# Altium footprint library XRCHA.PcbLib: 1 footprints
Each footprint in its own frame and in the unit in brackets; x right, y up, seen from the top. Pads: shape width x height; smd on the part's side, far side on the other; paste and mask are expansions set on the pad; w line width, h text height; cw(c..) or ccw(c..) is an arc to the next point about the centre after c.
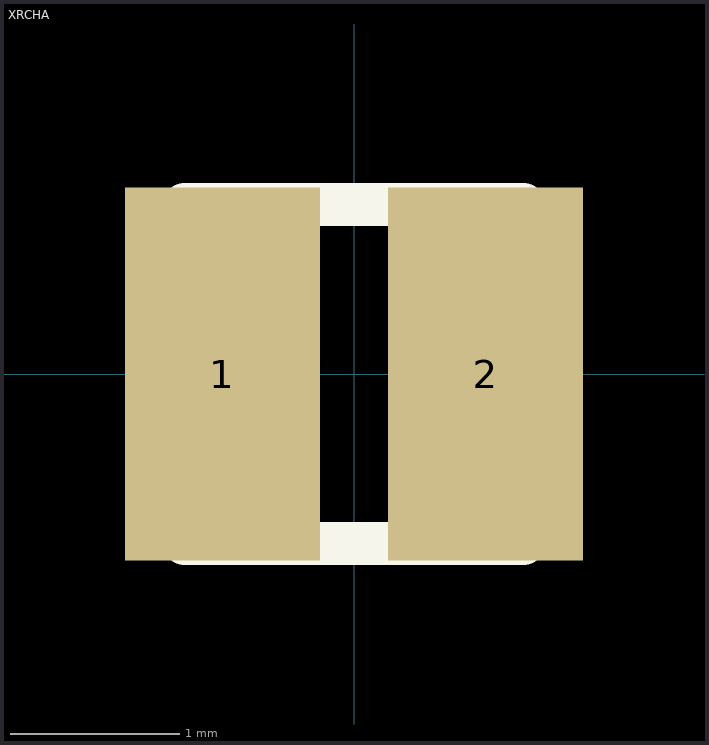
[diagram p0: the footprint, top view; thin cyan lines are the x and y axes]

## XRCHA [mm] "Murata XRCHA Series Crystal recommended pattern"
pads (2):
  rect 1.15x2.2 smd: 1(-0.775,0) 2(0.775,0)
Top Overlay:
  lines w0.254: -1,-1 -1,1 1,1 1,-1 -1,-1
3D body "XRCHA.stp": height 0.8, standoff 0, extent -1.25,-1 1.25,1